# Altium schematic symbol library L7905AC.Schlib: 1 symbol
Pins are listed as number, name and electrical type; pins without a type are passive.

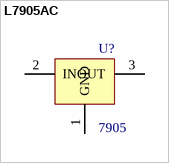
[diagram p0: symbol L7905AC]

## L7905AC
designator U?, comment 7905
Fixed, Three Terminal Pos  Regulator -5V/1A in D2PAK; ComponentLink1Description: Datasheet; ComponentLink1URL: https://www.farnell.com/datasheets/2581705.pdf
footprint DPAK254P1544X483-3N(D2PAK) (D2-PAK, 3-Pads, Body 7,93x8,69mm (max), IPC Medium Density)
pins: 1 GND, 2 IN, 3 OUT